# EAGLE library part PRPC006DBAN-M71RC (library KVB-connectors)
Connector Header Through Hole Right Angle 12 position 0.100" (2.54mm)
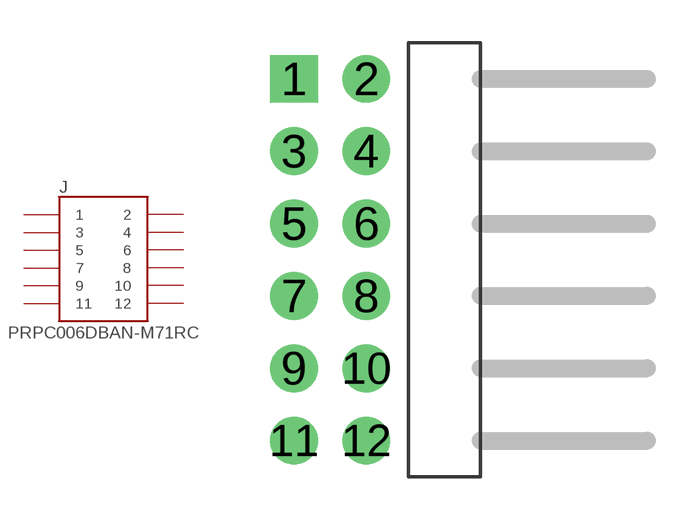
[diagram p33: symbol with the pads of PRPC006DBAN-M71RC; footprint PRPC006DBAN-M71RC]

Designator prefix J

## PRPC006DBAN-M71RC (MAN-PART_NUM: PRPC006DBAN-M71RC; MANUFACTURER: Sullins)  [PRPC006DBAN-M71RC]
1  1
2  2
3  3
4  4
5  5
6  6
7  7
8  8
9  9
10  10
11  11
12  12

## Footprint PRPC006DBAN-M71RC (pad centres in mm)
drill 1.016 pad 1.676 square: 1 -6.553,6.35
drill 1.016 pad 1.676: 2 -4.013,6.35; 3 -6.553,3.81; 4 -4.013,3.81; 5 -6.553,1.27; 6 -4.013,1.27; 7 -6.553,-1.27; 8 -4.013,-1.27; 9 -6.553,-3.81; 10 -4.013,-3.81; 11 -6.553,-6.35; 12 -4.013,-6.35